# EAGLE library part TI-TPS2116 (library EagleLibrary)
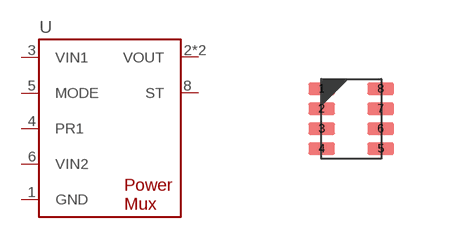
[diagram p46: symbol with the pads of TI-TPS2116DRLR; footprint TI-TPS2116DRLR]

Designator prefix U

## TI-TPS2116 (MFG: Texas Instruments)  [TI-TPS2116DRLR]
1  GND
2  VOUT
3  VIN1
4  PR1
5  MODE
6  VIN2
7  VOUT
8  ST

## Footprint TI-TPS2116DRLR (pad centres in mm)
6-SON (DFN), 0.50 mm pitch, 1.45 X 1.00 X 0.60 mm body 6-pin SON (DFN) package with 0.50 mm pitch with body size 1.45 X 1.00 X 0.60 mm
smd 0.67 x 0.3: 1 -0.74,0.75; 2 -0.74,0.25; 3 -0.74,-0.25; 4 -0.74,-0.75; 5 0.74,-0.75; 6 0.74,-0.25; 7 0.74,0.25; 8 0.74,0.75